# EAGLE library part X__JTAG_LIEGEND (library ..SMD)
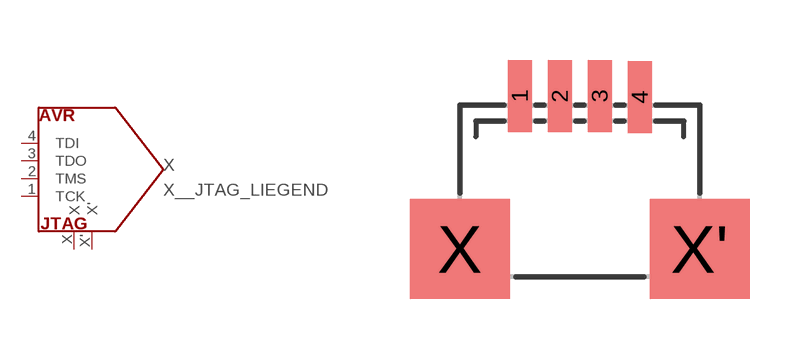
[diagram p364: symbol with the pads of JST_SH_LIEGEND_4; footprint JST_SH_LIEGEND_4]

Designator prefix X

## X__JTAG_LIEGEND  [JST_SH_LIEGEND_4]
1  TCK
2  TMS
3  TDO
4  TDI
X  X
X'  X'

## Footprint JST_SH_LIEGEND_4 (pad centres in mm)
smd 0.6 x 1.8: 1 0,0.03; 2 1,0.03; 3 2,0.03; 4 3,0
smd 2.5 x 2.5: X -1.5,-3.8; X' 4.5,-3.8